# Altium footprint library LED_PcbLib.PcbLib: 3 footprints
Each footprint in its own frame and in the unit in brackets; x right, y up, seen from the top. Pads: shape width x height; smd on the part's side, far side on the other; paste and mask are expansions set on the pad; w line width, h text height; cw(c..) or ccw(c..) is an arc to the next point about the centre after c.
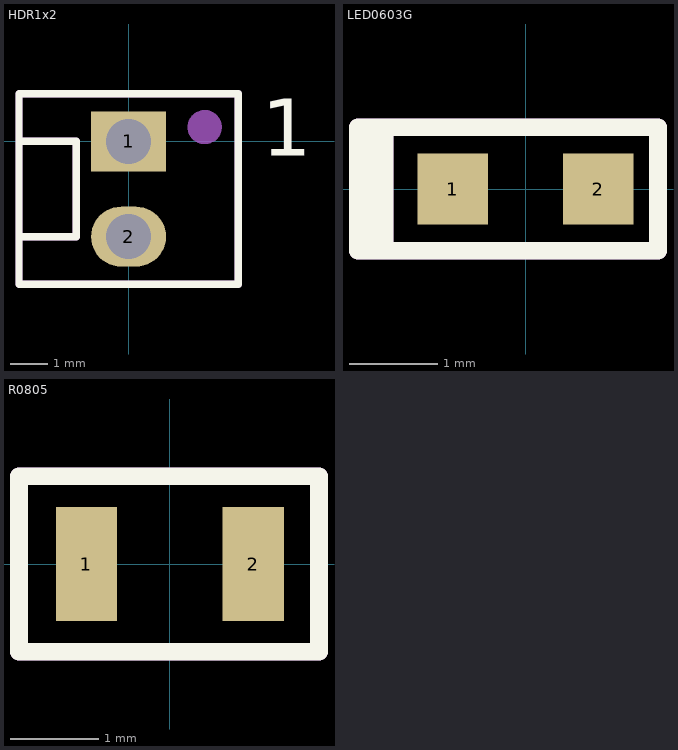
[diagram p0: the footprints below, top view; thin cyan lines are the x and y axes]

## HDR1x2 [mm]
pads (2):
  rect 2x1.6 hole 1.2: 1(0,0)
  oval 2x1.6 hole 1.2: 2(0,-2.54)
Top Overlay:
  lines w0.2: -2.921,0 -1.397,0 -1.397,-2.54 -2.794,-2.54 ; -2.921,-3.81 -2.921,1.27 2.921,1.27 2.921,-3.81 -2.921,-3.81
  text "1" at 3.556,-0.381 h1.52
Mechanical 29:
  circle w0.508: c2.032,0.381 r0.203
  lines w0.2: -2.921,0 -1.397,0 -1.397,-2.54 -2.794,-2.54 ; -2.921,-3.81 -2.921,1.27 2.921,1.27 2.921,-3.81 -2.921,-3.81
  text "'.Designator'" at -1.016,-2.921 h1.2
3D body "022292021.stp": height 11.71, standoff -3.55, extent -2.9,-3.81 2.9,1.27

## LED0603G [mm]
pads (2):
  rect 0.8x0.8 smd: 1(-0.825,0) 2(0.825,0)
Top Overlay:
  rectangle: -1.9,-0.7 -1.5,0.7
  lines w0.2: -1.9,-0.7 1.5,-0.7 1.5,0.7 -1.9,0.7 -1.9,-0.7
Mechanical 29:
  rectangle: -1.9,-0.7 -1.5,0.7
  lines w0.2: -1.9,-0.7 1.5,-0.7 1.5,0.7 -1.9,0.7 -1.9,-0.7
  text "'.Designator'" at -1.5,-0.7 h0.7
3D body "User Library-SMD LED 0603.step": height 0.4, standoff 0.01, extent -0.8,-0.4 0.8,0.4

## R0805 [mm]
pads (2):
  rect 0.7x1.3 smd: 1(-0.95,0) 2(0.95,0)
Top Overlay:
  lines w0.2: -1.719,-1 -1.719,1 1.7,1 1.7,-1 -1.719,-1
Mechanical 29:
  lines w0.2: -1.719,-1 -1.719,1 1.7,1 1.7,-1 -1.719,-1
  text "'.Designator'" at -1.3,-0.6 h0.7
3D body "User Library-CR2012-0805.step": height 0.61, standoff 0.01, extent -1,-0.625 1,0.625